# Altium schematic symbol library ERJ-1GNF3401C.SchLib: 1 symbol
Pins are listed as number, name and electrical type; pins without a type are passive.

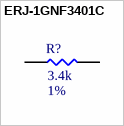
[diagram p0: symbol ERJ-1GNF3401C]

## ERJ-1GNF3401C
designator R?  Resistance: 3.4k  Tolerance: 1%  (hidden comment: ERJ-1GNF3401C)
RES SMD 3.4K OHM 1% 1/20W 0201; MFR: Panasonic Electronic Components; PN: ERJ-1GNF3401C; Footprint: 0201; Package: RES0201; ComponentLink1Description: Datasheet; ComponentLink1URL: https://www.mouser.ca/datasheet/2/315/AOA0000C304-1149620.pdf; Power Rating: 1/20W; Supplier 1: Mouser; Supplier Part Number 1: 667-ERJ-1GNF3401C
footprint RES0201 (A generic 0201 footprint)
pins: 1, 2